# EAGLE library part LM317LDG (library ON Semiconductor_By_element14_Batch_1)
Adjustable Output, Positive Linear Voltage Regulator
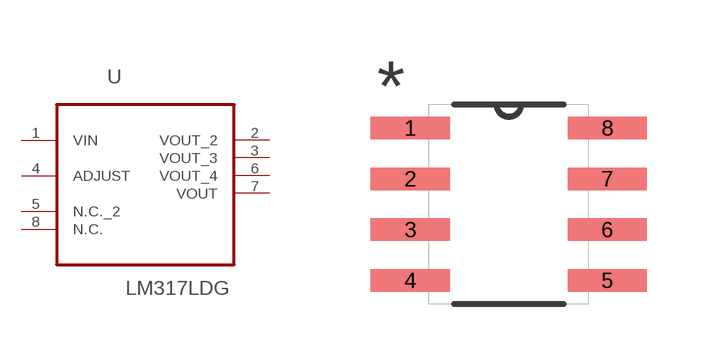
[diagram p54: symbol with the pads of SOIC127P600X175-8N; footprint SOIC127P600X175-8N]

Designator prefix U

## LM317LDG (MPN: LM317LDG; OC_FARNELL: 1211101; OC_NEWARK: 45J0739; PACKAGE: 8-SOIC; SUPPLIER: ON Semi)  [SOIC127P600X175-8N]
1  VIN  pwr
2  VOUT_2  out
3  VOUT_3  out
4  ADJUST  in
5  N.C._2  nc
6  VOUT_4  out
7  VOUT  out
8  N.C.  nc

## Footprint SOIC127P600X175-8N (pad centres in mm)
smd 1.981 x 0.559: 1 -2.464,1.905; 2 -2.464,0.635; 3 -2.464,-0.635; 4 -2.464,-1.905; 5 2.464,-1.905; 6 2.464,-0.635; 7 2.464,0.635; 8 2.464,1.905